# Altium footprint library rcl.PCBLIB: 487 footprints (part 22 of 31)
Each footprint in its own frame and in the unit in brackets; x right, y up, seen from the top. Pads: shape width x height; smd on the part's side, far side on the other; paste and mask are expansions set on the pad; w line width, h text height; cw(c..) or ccw(c..) is an arc to the next point about the centre after c.
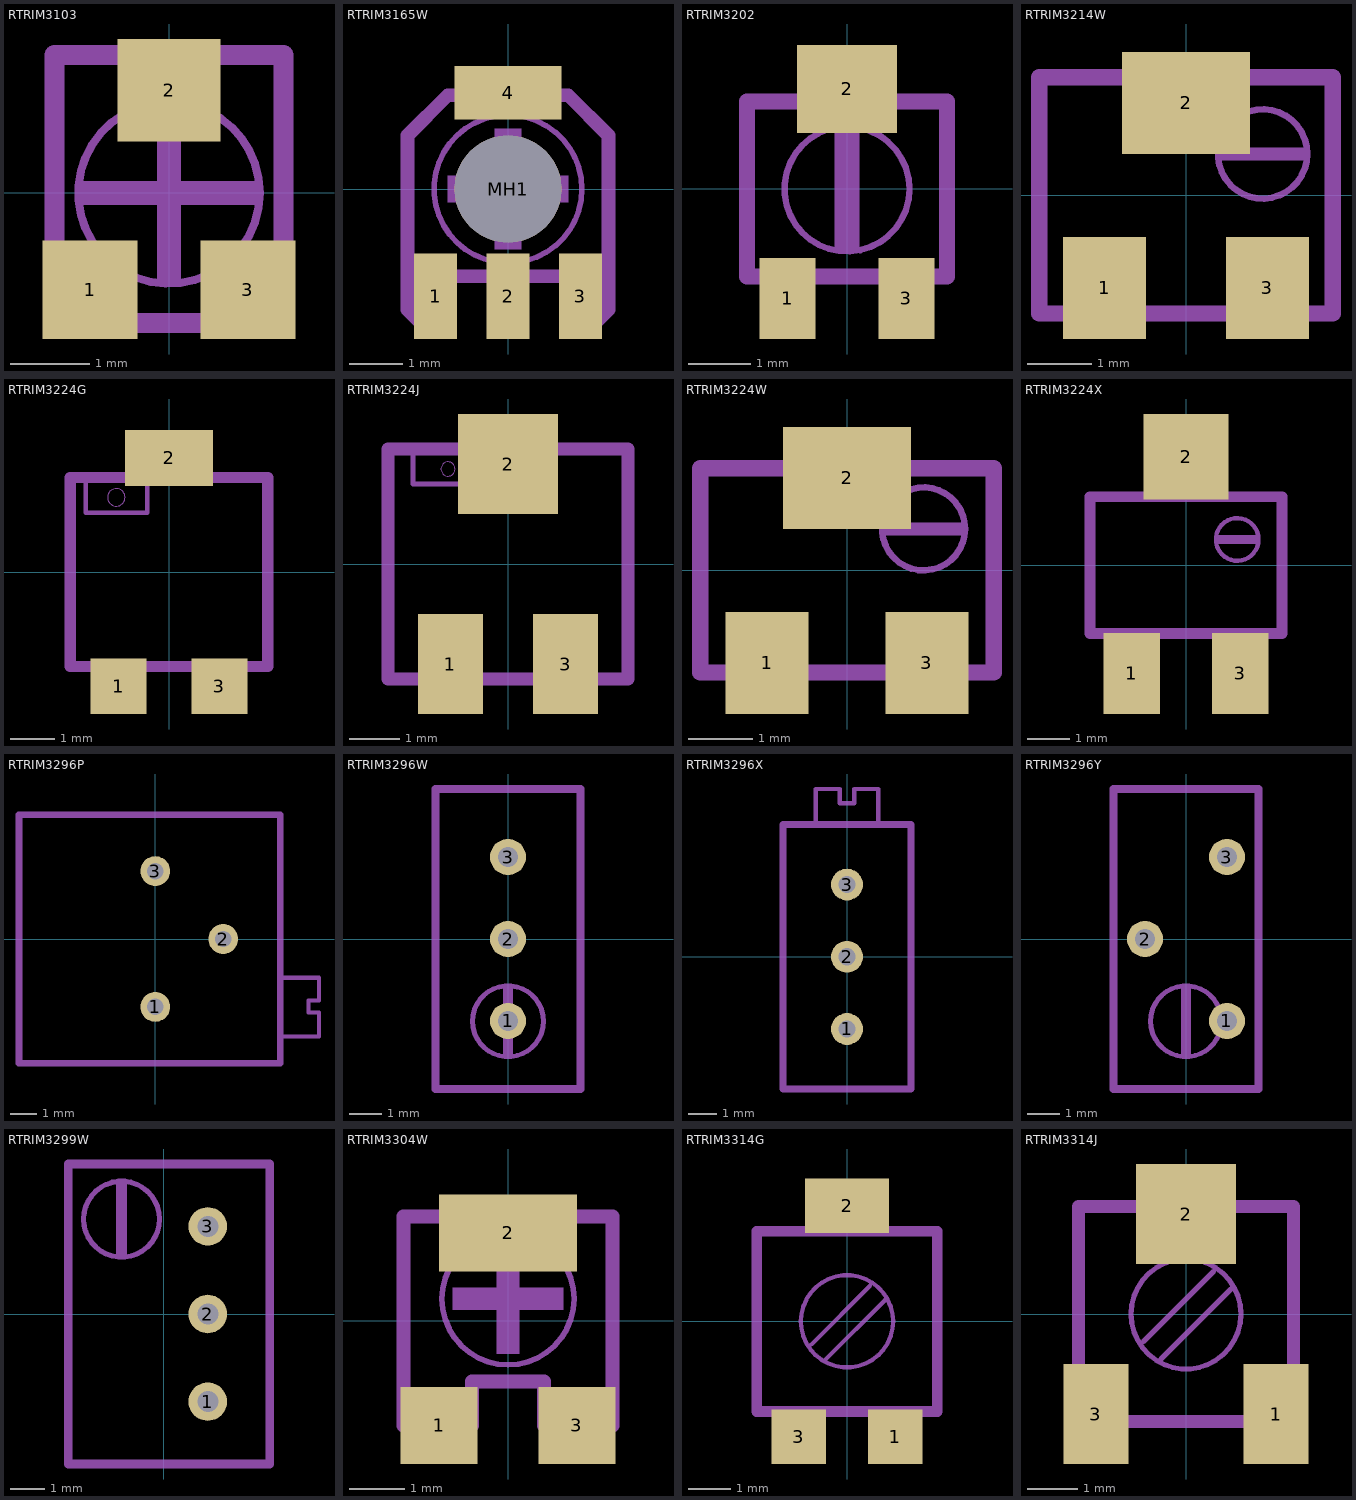
[diagram p21: the footprints below, top view; thin cyan lines are the x and y axes]

## RTRIM3103 [mm]
pads (3):
  rect 1.2x1.25 smd: 1(-1,-1.225) 3(1,-1.225)
  rect 1.3x1.3 smd: 2(0,1.3)
tDocu:
  circle w0.102: c0,0 r1.15
  region: -1.15,-0.15 -1.15,0.15 1.15,0.15 1.15,-0.15
  region: -0.15,-1.15 -0.15,1.15 0.15,1.15 0.15,-1.15
  lines w0.254: -1.45,-1.65 -1.45,1.75 1.45,1.75 1.45,-1.65 -1.45,-1.65
tPlace:
  lines w0.254: -1.45,-0.4 -1.45,1.75 -0.85,1.75 ; 0.85,1.75 1.45,1.75 1.45,-0.4

## RTRIM3165W [mm]
pads (5):
  rect 0.8x1.6 smd: 1(-1.35,-2) 2(0,-2) 3(1.35,-2)
  rect 2x1 smd: 4(0,1.8)
  round 2 hole 2 unplated: MH1(0,0)
tDocu:
  lines w0.254: -1.875,-1.375 -1.875,-2.25 -1.625,-2.5 -1.125,-2.5 -1.125,-1.625 -0.25,-1.625 -0.25,-2.5 0.25,-2.5 0.25,-1.625 1.125,-1.625 1.125,-2.5 1.625,-2.5 1.875,-2.25 1.875,-1.625 ; -1.125,1.75 1.125,1.75
tPlace:
  circle w0.102: c0,0 r1.38
  region: -0.25,-1.125 -0.25,1.125 0.25,1.125 0.25,-1.125
  region: -1.125,-0.25 -1.125,0.25 1.125,0.25 1.125,-0.25
  lines w0.254: -1.875,-1.375 -1.875,1 -1.125,1.75 ; 1.125,1.75 1.875,1 1.875,-1.625

## RTRIM3202 [mil]
pads (3):
  rect 35.43x51.18 smd: 1(-37.4,-68.9) 3(37.4,-68.9)
  rect 62.99x55.12 smd: 2(0,62.99)
tDocu:
  circle w4: c0,0 r39.37
  region: -7.87,-39.37 -7.87,39.37 7.87,39.37 7.87,-39.37
  lines w10: -62.99,-55.12 62.99,-55.12 ; -62.99,55.12 62.99,55.12
tPlace:
  lines w10: -62.99,-55.12 -62.99,55.12 -39.37,55.12 ; -11.81,-55.12 11.81,-55.12 ; 39.37,55.12 62.99,55.12 62.99,-55.12

## RTRIM3214W [mm]
pads (3):
  rect 1.3x1.6 smd: 1(-1.275,-1.45) 3(1.275,-1.45)
  rect 2x1.6 smd: 2(0,1.45)
tDocu:
  circle w0.102: c1.2,0.65 r0.7
  region: 0.55,0.55 0.55,0.75 1.85,0.75 1.85,0.55
  region: -1.8,-2.1 -1.8,-1.95 -0.75,-1.95 -0.75,-2.1
  region: 0.75,-2.1 0.75,-1.95 1.8,-1.95 1.8,-2.1
  region: -0.75,1.95 -0.75,2.1 0.75,2.1 0.75,1.95
  lines w0.254: -2.3,-1.85 -2.3,1.85 2.3,1.85 2.3,-1.85 -2.3,-1.85
tPlace:
  lines w0.254: -2.3,-1.85 -2.3,1.85 -1.3,1.85 ; -0.4,-1.85 0.4,-1.85 ; 1.3,1.85 2.3,1.85 2.3,-1.85

## RTRIM3224G [mm]
pads (3):
  rect 1.27x1.27 smd: 1(-1.15,-2.6) 3(1.15,-2.6)
  rect 2x1.27 smd: 2(0,2.6)
tDocu:
  region: -0.65,2.25 -0.65,3 0.65,3 0.65,2.25
  region: -1.6,-3 -1.6,-2.25 -0.7,-2.25 -0.7,-3
  region: 0.7,-3 0.7,-2.25 1.6,-2.25 1.6,-3
  lines w0.102: -1.9,2.05 -1.9,1.35 -0.5,1.35 -0.5,2.05
  lines w0.254: -2.25,-2.15 2.25,-2.15 2.25,2.15 -2.25,2.15 -2.25,-2.15
tPlace:
  circle w0: c-1.2,1.7 r0.2
  lines w0.254: -2,-2.15 -2.25,-2.15 -2.25,2.15 -1.2,2.15 ; -0.3,-2.15 0.3,-2.15 ; 1.2,2.15 2.25,2.15 2.25,-2.15 2,-2.15

## RTRIM3224J [mm]
pads (3):
  rect 1.3x2 smd: 1(-1.15,-2) 3(1.15,-2)
  rect 2x2 smd: 2(0,2)
tDocu:
  region: -0.6,2.4 -0.6,2.5 0.6,2.5 0.6,2.4
  region: 0.7,-2.5 0.7,-2.4 1.6,-2.4 1.6,-2.5
  region: -1.6,-2.5 -1.6,-2.4 -0.7,-2.4 -0.7,-2.5
  lines w0.102: -1.9,2.2 -1.9,1.6 -0.5,1.6 -0.5,2.2
  lines w0.254: -2.4,-2.3 2.4,-2.3 2.4,2.3 -2.4,2.3 -2.4,-2.3
tPlace:
  circle w0: c-1.2,1.9 r0.141
  lines w0.254: -2.1,-2.3 -2.4,-2.3 -2.4,2.3 -1.4,2.3 ; -0.2,-2.3 0.2,-2.3 ; 1.4,2.3 2.4,2.3 2.4,-2.3 2.2,-2.3

## RTRIM3224W [mm]
pads (3):
  rect 1.3x1.6 smd: 1(-1.25,-1.45) 3(1.25,-1.45)
  rect 2x1.6 smd: 2(0,1.45)
tDocu:
  circle w0.102: c1.2,0.65 r0.65
  region: -0.7,1.7 -0.7,1.95 0.7,1.95 0.7,1.7
  region: 0.85,-1.95 0.85,-1.7 1.65,-1.7 1.65,-1.95
  region: -1.65,-1.95 -1.65,-1.7 -0.85,-1.7 -0.85,-1.95
  region: 0.6,0.55 0.6,0.75 1.8,0.75 1.8,0.55
  lines w0.254: -2.3,-1.6 2.3,-1.6 2.3,1.6 -2.3,1.6 -2.3,-1.6
tPlace:
  lines w0.254: -2.1,-1.6 -2.3,-1.6 -2.3,1.6 -1.3,1.6 ; -0.35,-1.6 0.35,-1.6 ; 1.3,1.6 2.3,1.6 2.3,-1.6 2.1,-1.6

## RTRIM3224X [mm]
pads (3):
  rect 1.32x1.9 smd: 1(-1.27,-2.54) 3(1.27,-2.54)
  rect 2x2 smd: 2(0,2.54)
tDocu:
  region: -1.7,-2.85 -1.7,-1.7 -0.9,-1.7 -0.9,-2.85
  region: 0.9,-2.85 0.9,-1.7 1.7,-1.7 1.7,-2.85
  region: -0.65,1.7 -0.65,2.85 0.65,2.85 0.65,1.7
  lines w0.254: -2.25,-1.6 -2.25,1.6 2.25,1.6 2.25,-1.6 -2.25,-1.6
tPlace:
  circle w0.102: c1.2,0.6 r0.5
  region: 0.75,0.5 0.75,0.7 1.65,0.7 1.65,0.5
  lines w0.254: -2.25,-1.6 -2.25,1.6 -1.25,1.6 ; -0.4,-1.6 0.4,-1.6 ; 1.25,1.6 2.25,1.6 2.25,-1.6

## RTRIM3296P [mil]
pads (3):
  round 44 hole 24: 1(0,-100) 2(100,0) 3(0,100)
tPlace:
  lines w6: 187.99,-143.7 241.14,-143.7 241.14,-108.27 225.39,-108.27 225.39,-90.55 241.14,-90.55 241.14,-57.09 187.99,-57.09
  lines w10: -200.79,-183.07 -200.79,183.07 184.06,183.07 184.06,-183.07 -200.79,-183.07

## RTRIM3296W [mil]
pads (3):
  round 44 hole 24: 1(0,-100) 2(0,0) 3(0,100)
tDocu:
  region: -5.91,-141.73 -5.91,-59.06 5.91,-59.06 5.91,-141.73
tPlace:
  circle w6: c0,-100.39 r43.35
  lines w10: -88.58,-183.07 88.58,-183.07 88.58,183.07 -88.58,183.07 -88.58,-183.07

## RTRIM3296X [mil]
pads (3):
  round 44 hole 24: 1(0,-100) 2(0,0) 3(0,100)
tPlace:
  lines w6: -43.31,185.04 -43.31,232.28 -9.84,232.28 -9.84,212.6 9.84,212.6 9.84,232.28 43.31,232.28 43.31,185.04
  lines w10: -88.58,-183.07 88.58,-183.07 88.58,183.07 -88.58,183.07 -88.58,-183.07

## RTRIM3296Y [mil]
pads (3):
  round 44 hole 24: 1(50,-100) 2(-50,0) 3(50,100)
tDocu:
  circle w6: c0,-100.39 r43.35
tPlace:
  region: -5.91,-141.73 -5.91,-59.06 5.91,-59.06 5.91,-141.73
  lines w10: -88.58,-183.07 88.58,-183.07 88.58,183.07 -88.58,183.07 -88.58,-183.07

## RTRIM3299W [mil]
pads (3):
  round 44 hole 24: 1(50,-100) 2(50,0) 3(50,100)
tPlace:
  circle w6: c-48.43,108.27 r43.35
  region: -54.33,66.93 -54.33,149.61 -42.52,149.61 -42.52,66.93
  lines w10: -109.45,-171.26 120.87,-171.26 120.87,171.26 -109.45,171.26 -109.45,-171.26

## RTRIM3304W [mil]
pads (3):
  rect 55.12x55.12 smd: 1(-49.21,-74.8) 3(49.21,-74.8)
  rect 98.43x55.12 smd: 2(0,62.99)
tDocu:
  circle w4: c0,15.75 r47.24
  region: -39.37,7.87 -39.37,23.62 39.37,23.62 39.37,7.87
  region: -7.87,-23.62 -7.87,55.12 7.87,55.12 7.87,-23.62
  lines w10: -74.8,-43.31 -74.8,-74.8 -25.59,-74.8 -25.59,-43.31 ; -74.8,74.8 74.8,74.8 ; 25.59,-43.31 25.59,-74.8 74.8,-74.8 74.8,-43.31
tPlace:
  lines w10: -74.8,-43.31 -74.8,74.8 ; -25.59,-43.31 25.59,-43.31 ; 74.8,-43.31 74.8,74.8

## RTRIM3314G [mm]
pads (3):
  rect 1.3x1.3 smd: 1(1.15,-2.75) 3(-1.15,-2.75)
  rect 2x1.3 smd: 2(0,2.75)
tDocu:
  lines w0.254: -2.15,-2.15 2.15,-2.15 2.15,2.15 -2.15,2.15 -2.15,-2.15
tPlace:
  circle w0.102: c0,0 r1.1
  lines w0.102: -0.85,-0.55 0.55,0.85 ; -0.5,-0.9 0.9,0.5
  lines w0.254: -2.15,-2.15 -2.15,2.15 -1.3,2.15 ; -0.1,-2.15 0.1,-2.15 ; 1.3,2.15 2.15,2.15 2.15,-2.15

## RTRIM3314J [mm]
pads (3):
  rect 1.3x2 smd: 1(1.8,-2) 3(-1.8,-2)
  rect 2x2 smd: 2(0,2)
tDocu:
  lines w0.254: -2.15,-2.15 2.15,-2.15 2.15,2.15 -2.15,2.15 -2.15,-2.15
tPlace:
  circle w0.102: c0,0 r1.1
  lines w0.102: -0.85,-0.55 0.55,0.85 ; -0.5,-0.9 0.9,0.5
  lines w0.254: -2.15,-0.8 -2.15,2.15 -1.2,2.15 ; -0.95,-2.15 0.95,-2.15 ; 1.2,2.15 2.15,2.15 2.15,-0.8